# Altium schematic symbol library godnota.SchLib: 14 symbols
Pins are listed as number, name and electrical type; pins without a type are passive.

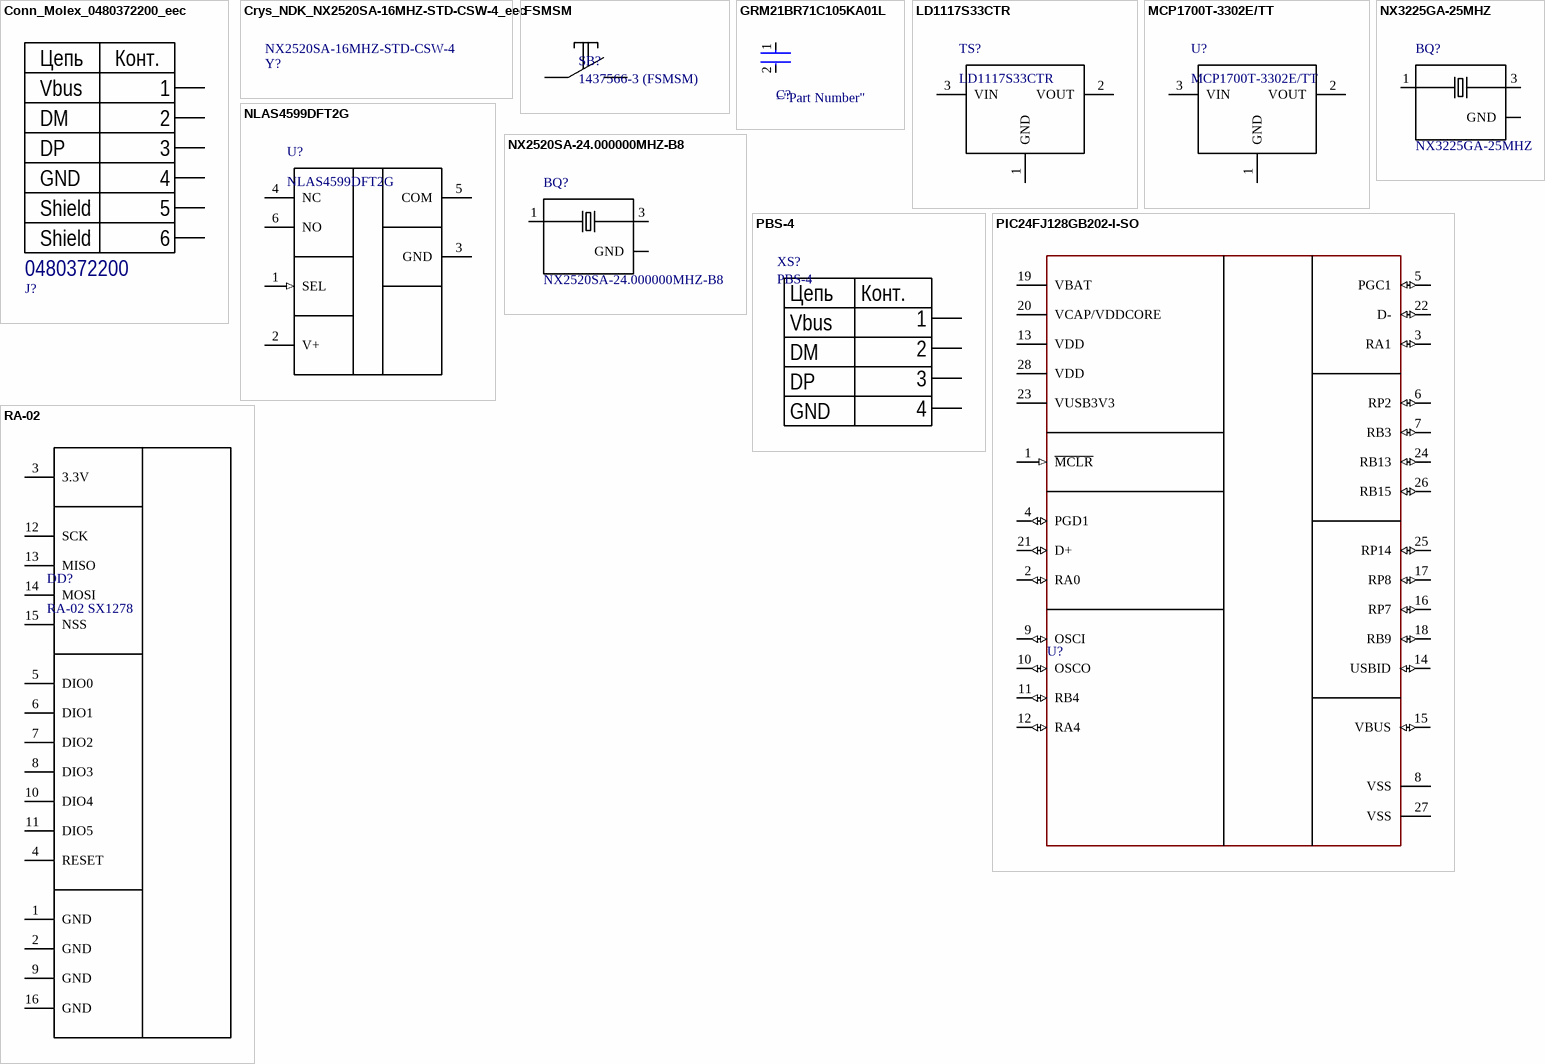
[diagram p0: symbols Conn_Molex_0480372200_eec to RA-02]

## Conn_Molex_0480372200_eec
designator J?  Part Number: 0480372200
CONN PLUG USB A 4POS SMD R/A; Manufacturer: Molex; Is Female: yes; Current - Maximum per Contact: 1.5A; Voltage - Maximum: 150V AC (RMS); helpURL: https://upverter.com/upn/revision/6bade1e906f93a88/; ComponentLink2Description: Datasheet; Temperature: -20°C to +85°C; Package: CONN_USB_12MM0_18MM75; Supplier 2: Mouser; Price: 0.972849437621; Supplier 1: Digi-Key; ComponentLink1URL: https://upverter.com/upn/revision/6bade1e906f93a88/; Supplier Part Number 2: 538-48037-2200; Supplier Part Number 1: WM3983CT-ND; ComponentLink1Description: Upverter; ComponentLink2URL: http://www.molex.com/pdm_docs/sd/480372200_sd.pdf; RoHS: TRUE; Mouser Part Number: 538-48037-2200; Temperature Range High: +85°C; Digikey Description: CONN PLUG USB A 4POS SMD R/A; Digikey Part Number: WM3983CT-ND; Lead Free: yes; Temperature Range Low: -20°C
footprint Molex_0480372200_0
pins: 1, 2, 3, 4, 5 MNT 1, 6 MNT 2
text: Цепь; Конт.; Vbus; DM; DP; GND; Shield

## Crys_NDK_NX2520SA-16MHZ-STD-CSW-4_eec
designator Y?  Part Number: NX2520SA-16MHZ-STD-CSW-4
CRYSTAL 16.0000MHZ 8PF SMD; Manufacturer: NDK; Frequency: 16MHz; helpURL: https://upverter.com/upn/revision/362732d6def5e20d/; ComponentLink2Description: Datasheet; Temperature: -10°C to +75°C; Package: SMD4; Supplier 2: Mouser; Price: 0.861780111689; Supplier 1: Digi-Key; ComponentLink1URL: https://upverter.com/upn/revision/362732d6def5e20d/; Supplier Part Number 1: 644-1168-1-ND; ComponentLink1Description: Upverter; ComponentLink2URL: http://www.ndk.com/images/products/catalog/c_NX2520SA-STD-CSW-4_e.pdf; RoHS: TRUE; Digikey Description: CRYSTAL 16.0000MHZ 8PF SMD; Digikey Part Number: 644-1168-1-ND; Lead Free: yes; Temperature Range High: +75°C; Temperature Range Low: -10°C
footprint NDK_NX2520SA-16MHZ-STD-CSW-4_0

## FSMSM
designator SB?, comment 1437566-3 (FSMSM)
1437566-3 (FSMSM), Кнопка тактовая h=4.6 мм SMD SPST Switch Tactile / Switch Tactile OFF (ON) SPST Rectangular Button Gull Wing 0.05A 24VDC SMD Loose; Произвдитель: TE Connectivity; Артикул: 1437566-3 (FSMSM); ComponentLink1Description: buy; ComponentLink1URL: https://www.chipdip.ru/product/tyco-1437566-3-fsmsm; ComponentLink2Description: datasheet; ComponentLink2URL: https://static.chipdip.ru/lib/071/DOC000071159.pdf
footprint *SW_1437566-4
pins: 1, 2

## GRM21BR71C105KA01L
designator C?  (value not drawn)
pins: 1, 2

## LD1117S33CTR
designator TS?
Linear Regulator / LDO Regulator Pos 3.3V 1.3A 4-Pin(3+Tab) SOT-223 T/R; Code_IPC: SOT-223; PackageVersion: revBB, Aug-2009; PackageReference: SOT-223; PackageDescription: 3-Lead Plastic Small Outline Transistor (TT) [SOT-23]; DatasheetVersion: revB, Feb-2007; PartNumber: LD1117S33CTR; ComponentLink1Description: buy; ComponentLink1URL: https://www.chipdip.ru/product/ld1117s33ctr-2; ComponentLink2Description: datasheet; ComponentLink2URL: https://static.chipdip.ru/lib/292/DOC000292513.pdf
footprint *SOT223
pins: 1 GND (power), 2 VOUT (power), 3 VIN (power)

## MCP1700T-3302E/TT
designator U?
Low Quiescent Current LDO, 3-Pin SOT-23, Extended Temperature, Tape and Reel; Code_IPC: SOT23-3; PackageVersion: revBB, Aug-2009; PackageReference: SOT-23-TT3; PackageDescription: 3-Lead Plastic Small Outline Transistor (TT) [SOT-23]; DatasheetVersion: revB, Feb-2007; PartNumber: MCP1700T-3302E/TT
footprint SOT-23-TT3_M
footprint SOT-23-TT3_N
footprint SOT-23-TT3_L
pins: 1 GND (power), 2 VOUT (power), 3 VIN (power)

## NLAS4599DFT2G
designator U?
Low Voltage Single Supply SPDT Analog Switch, 2 to 5.5 V, -55 to 125 degC, 6-Pin SC70, Pb-Free, Tape and Reel; Manufacturer: On Semiconductor; VCC Max (V): 5.5; Icc Max (uA): 2; PackageVersion: Rev. W, 01/2006; ComponentLink1Description: Manufacturer URL; DatasheetVersion: Rev. 11; Mounting Technology: Surface Mount; ComponentLink3URL: http://www.onsemi.com/pub_link/Collateral/SMF05C-D.PDF; ComponentLink3Description: Package Specification; ComponentLink1URL: http://www.onsemi.com/; Packing: Tape and Reel; VCC Min (V): 2; ComponentLink2Description: Datasheet; PartNumber: NLAS4599DFT2G; PackageReference: SC70-6-419B-02_W; PackageDescription: 6-Pin Small Outline Transistor, Body 2 x 1.25 mm, Pitch 0.65 mm; ComponentLink2URL: http://www.onsemi.com/pub_link/Collateral/NLAS4599-D.PDF; RoHS: TRUE
footprint ONSC-SC70-6-419B-02_W_V
pins: 1 SEL (in), 2 V+ (power), 3 GND (power), 4 NC, 5 COM, 6 NO

## NX2520SA-24.000000MHZ-B8
designator BQ?
CRYSTAL 24.0000MHZ 10PF SMD; MF: NDK America, Inc.; Package: SMD-4 NDK America, Inc.; MP: NX2520SA-24.000000MHZ-B8; Availability: Unavailable; SnapEDA_Link: https://www.snapeda.com/parts/NX2520SA-24.000000MHZ-B8/NDK%20America%2C%20Inc./view-part/?ref=snap; Price: None; Value: *
footprint *XTAL_NX2520SA-24.000000MHZ-B8
pins: 1, 2 GND (power), 3, 4 GND (power)

## NX3225GA-25MHZ
designator BQ?
NX3225GA-25MHZ 8pF, 25 МГц, 30/20ppm, 8пФ, -40...+85°C, SMD 3.2*2.5*0.75мм, Кварцевый резонатор; MF: NDK America, Inc.; Package: SMD-4 NDK America, Inc.; MP: NX3225GA-25MHZ 8pF; Availability: Unavailable; SnapEDA_Link: https://www.snapeda.com/parts/NX2520SA-24.000000MHZ-B8/NDK%20America%2C%20Inc./view-part/?ref=snap; Price: None; Value: *; ComponentLink1Description: buy; ComponentLink1URL: https://www.chipdip.ru/product0/9000523947; ComponentLink2Description: datasheet; ComponentLink2URL: https://static.chipdip.ru/lib/014/DOC004014815.pdf
footprint NDK_NX3225GA_0
pins: 1, 2 GND (power), 3, 4 GND (power)

## PBS-4
designator XS?
2.54mm; ComponentLink1Description: 3d; ComponentLink1URL: https://www.3dcontentcentral.com/secure/download-model.aspx?catalogid=171&id=455493; ComponentLink2Description: https://www.chipdip.ru/product/pld-6; ComponentLink2URL: https://www.chipdip.ru/product/pld-6
footprint PBS-4
pins: 1, 2, 3, 4
text: Цепь; Конт.; Vbus; DM; DP; GND

## PIC24FJ128GB202-I-SO
designator U?  (value not drawn)
footprint Microchip_SO-28_0
pins: 1 ~{MCLR} (in), 2 RA0 (io), 3 RA1 (io), 4 PGD1 (io), 5 PGC1 (io), 6 RP2 (io), 7 RB3 (io), 8 VSS (power), 9 OSCI (io), 10 OSCO (io), 11 RB4 (io), 12 RA4 (io), 13 VDD (power), 14 USBID (io), 15 VBUS (io), 16 RP7 (io), 17 RP8 (io), 18 RB9 (io), 19 VBAT (power), 20 VCAP/VDDCORE (power), 21 D+ (io), 22 D- (io), 23 VUSB3V3 (power), 24 RB13 (io), 25 RP14 (io), 26 RB15 (io), 27 VSS (power), 28 VDD (power)

## RA-02
designator DD?, comment RA-02 SX1278
footprint RA-02
pins: 1 GND, 2 GND, 3 3.3V, 4 RESET, 5 DIO0, 6 DIO1, 7 DIO2, 8 DIO3, 9 GND, 10 DIO4, 11 DIO5, 12 SCK, 13 MISO, 14 MOSI, 15 NSS, 16 GND

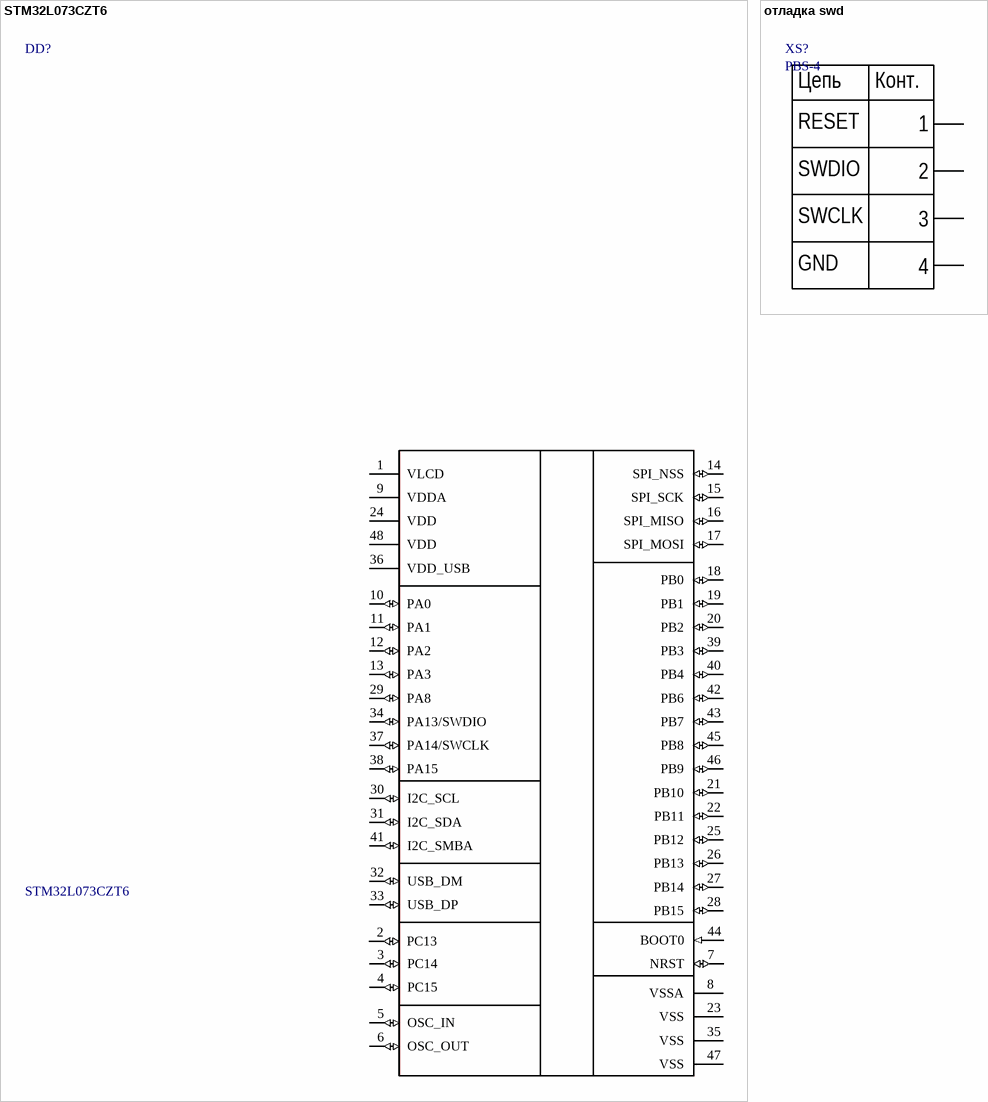
[diagram p1: symbols STM32L073CZT6 to отладка swd]

## STM32L073CZT6
designator DD?
/ ARMВ® CortexВ®-M0+ STM32 L0 Microcontroller IC 32-Bit 32MHz 192KB _192K x 8_ FLASH 48-LQFP /; MF: STMicroelectronics; SnapEDA_Link: https://www.snapeda.com/parts/STM32L073CZT6/STMicroelectronics/view-part/?ref=snap; Digi-Key_Purchase_URL: https://www.digikey.com/product-detail/en/stmicroelectronics/STM32L073CZT6/497-17506-ND/8024098?utm_source=snapeda&utm_medium=aggregator&utm_campaign=symbol; MP: STM32L073CZT6; Package: LQFP-48 STMicroelectronics; Digi-Key_Part_Number: 497-17506-ND; Value: *
footprint *QFP50P900X900X160-48N
pins: 1 VLCD (power), 2 PC13 (io), 3 PC14 (io), 4 PC15 (io), 5 OSC_IN (io), 6 OSC_OUT (io), 7 NRST (io), 8 VSSA (power), 9 VDDA (power), 10 PA0 (io), 11 PA1 (io), 12 PA2 (io), 13 PA3 (io), 14 SPI_NSS (io), 15 SPI_SCK (io), 16 SPI_MISO (io), 17 SPI_MOSI (io), 18 PB0 (io), 19 PB1 (io), 20 PB2 (io), 21 PB10 (io), 22 PB11 (io), 23 VSS (power), 24 VDD (power), 25 PB12 (io), 26 PB13 (io), 27 PB14 (io), 28 PB15 (io), 29 PA8 (io), 30 I2C_SCL (io), 31 I2C_SDA (io), 32 USB_DM (io), 33 USB_DP (io), 34 PA13/SWDIO (io), 35 VSS (power), 36 VDD_USB (power), 37 PA14/SWCLK (io), 38 PA15 (io), 39 PB3 (io), 40 PB4 (io), 41 I2C_SMBA (io), 42 PB6 (io), 43 PB7 (io), 44 BOOT0 (in), 45 PB8 (io), 46 PB9 (io), 47 VSS (power), 48 VDD (power)

## отладка swd
designator XS?, comment PBS-4
2.54mm swdio; ComponentLink1Description: 3d; ComponentLink1URL: https://www.3dcontentcentral.com/secure/download-model.aspx?catalogid=171&id=455493; ComponentLink2Description: https://www.chipdip.ru/product/pld-6; ComponentLink2URL: https://www.chipdip.ru/product/pld-6
footprint PBS-4
pins: 1, 2, 3, 4
text: Цепь; Конт.; RESET; SWDIO; SWCLK; GND